# Altium integrated library Linear Technology Power Management Power-Over-Ethernet (PoE) Interface Controllers.IntLib: 174 symbols (part 4 of 16)
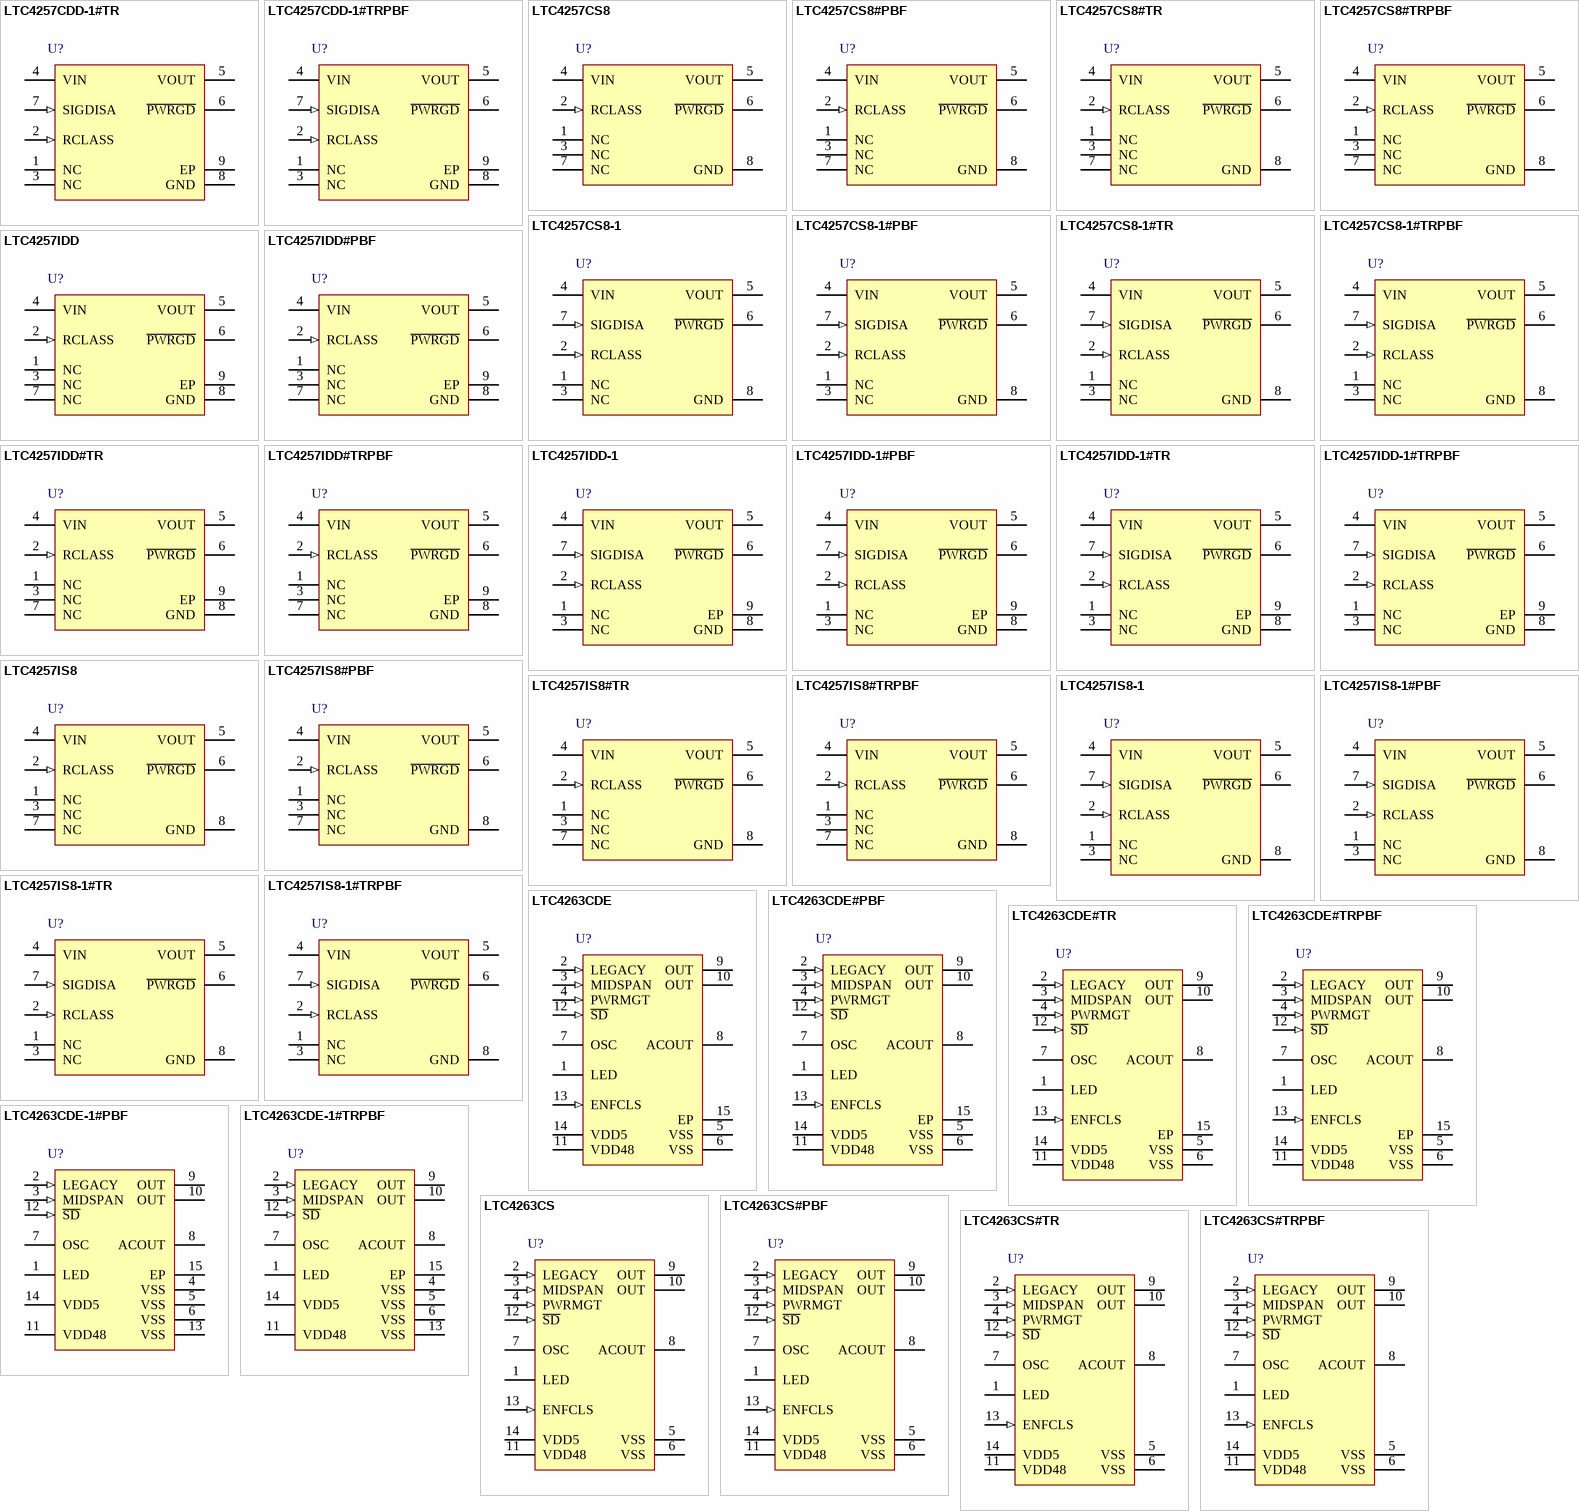
[diagram p11: symbols LTC4257CDD-1#TR to LTC4263CS#TRPBF]

## LTC4263CDE#TRPBF
designator U?
Single IEEE 802.3af Compliant PSE Controller with Internal Switch, 14-pin SON (DE-14), 0 to 70 degC, Pb-Free, Tape and Reel; Manufacturer: Linear Technology; PartNumber: LTC4263CDE#TRPBF; Channels(#): 1; Extended Temp: C, I; I2C Interface: no; Max Power(W): 12.95; DatasheetVersion: Rev. E; PackageVersion: Rev. B, 06/2010; PackageReference: DE-14; PackageDescription: 14-Pin Plastic DFN, Body 4 x 3 mm, Pitch 0.5 mm; Supplier 1: Digi-Key; Supplier Part Number 1: LTC4263CDE#TRPBF-ND; Supplier 2: Newark; Supplier Part Number 2: 56M9168; Packing: Tape and Reel; PoE Type: 1; PSE/PD: PSE; RoHS: TRUE; Mounting Technology: Surface Mount; Code_JEDEC: MO-229; ComponentLink1Description: Manufacturer URL; ComponentLink1URL: http://www.linear.com/; ComponentLink2Description: Datasheet; ComponentLink2URL: http://cds.linear.com/docs/en/datasheet/4263fe.pdf; ComponentLink3Description: Package Specification; ComponentLink3URL: http://www.linear.com/docs/en/packaging/DFN_14_05-08-1708.pdf
footprint LT-DE-14_V (SON, 14-Leads, Body 4x3mm, Pitch 0.5mm, Thermal Pad 3.3x1.7mm)
pins: 1 LED (oc) "Port State LED Drive. This pin is an open drain output that pulls down when the port is powered. Under port fault conditions, the LED will fl ash in patterns to indicate the nature of the port fault. See the Applications (See Datasheet)", 2 LEGACY (in) "Legacy Detect. This pin controls whether legacy detect is enabled. If held at VDD5, legacy detect is enabled and testing for a large capacitor is performed to detect the presence of a legacy PD on the port.", 3 MIDSPAN (in) "Midspan Enable. If this pin is connected to VDD5, Midspan backoff is enabled and a 3.2 second delay occurs after every failed detect cycle unless the result is open circuit. If held at VSS, no delay occurs after failed (See Datasheet)", 4 PWRMGT (in) "Power Management. The LTC4263 sources current at the PWRMGT pin proportional to the class of the PD that it is powering.", 5 VSS (power) "Negative 48V Supply. Pins 5 and 6 should be tied together on the PCB.", 6 VSS (power) "Negative 48V Supply. Pins 5 and 6 should be tied together on the PCB.", 7 OSC "Oscillator for AC Disconnect. If AC disconnect is used, connect a 0.1uF X7R capacitor from OSC to VSS. Tie OSC to VSS to disable AC disconnect and enable DC disconnect.", 8 ACOUT "AC Disconnect Sense. Senses the port to determine whether a PD is still connected when in AC disconnect mode.", 9 OUT "Port Output. If DC disconnect is used, these pins are connected to the port. If AC disconnect is used, these pins are connected to the port through a parallel combination of a 1A diode and a 500k resistor. Pins 9 and 10 (See Datasheet)", 10 OUT "Port Output. If DC disconnect is used, these pins are connected to the port. If AC disconnect is used, these pins are connected to the port through a parallel combination of a 1A diode and a 500k resistor. Pins 9 and 10 (See Datasheet)", 11 VDD48 (power) "48V Return. Must be bypassed with a 0.1uF capacitor to VSS.", 12 ~{SD} (in) "Shutdown. If held low, the LTC4263 is prevented from performing detection or powering the port. Pulling S\D\ low will turn off the port if it is powered. When released, a 4-second delay will occur before detection is (See Datasheet)", 13 ENFCLS (in) "Enforce Class Current Limits. If held at VDD5, the LTC4263 will reduce the ICUT threshold for class 1 or class 2 PDs. If ENFCLS is held at VSS, ICUT remains at 375mA (typ) for all classes.", 14 VDD5 (power) "Logic Power Supply.", 15 EP (power) "VSS. Must be connected to VSS on the PCB. The Exposed Pad acts as a heatsink for the internal MOSFET."

## LTC4263CDE-1#PBF
designator U?
High Power Single PSE Controller with Internal Switch, 14-pin SON (DE-14), 0 to 70 degC, Pb-Free; Manufacturer: Linear Technology; PartNumber: LTC4263CDE-1#PBF; Channels(#): 1; Extended Temp: C, I; I2C Interface: no; Max Power(W): 30; DatasheetVersion: Rev. A; PackageVersion: Rev. B, 06/2010; PackageReference: DE-14; PackageDescription: 14-Pin Plastic DFN, Body 4 x 3 mm, Pitch 0.5 mm; Supplier 1: Digi-Key; Supplier Part Number 1: LTC4263CDE-1#PBF-ND; Supplier 2: Farnell; Supplier Part Number 2: 2295351; Supplier 3: Newark; Supplier Part Number 3: 56M9164; PSE/PD: PSE; RoHS: TRUE; Mounting Technology: Surface Mount; Code_JEDEC: MO-229; ComponentLink1Description: Manufacturer URL; ComponentLink1URL: http://www.linear.com/; ComponentLink2Description: Datasheet; ComponentLink2URL: http://cds.linear.com/docs/en/datasheet/42631fa.pdf; ComponentLink3Description: Package Specification; ComponentLink3URL: http://www.linear.com/docs/en/packaging/DFN_14_05-08-1708.pdf
footprint LT-DE-14_V (SON, 14-Leads, Body 4x3mm, Pitch 0.5mm, Thermal Pad 3.3x1.7mm)
pins: 1 LED (oc) "Port State LED Drive. This pin is an opendrain output that pulls down when the port is powered. Under port fault conditions, the LED will fl ash in patterns to indicate the nature of the port fault. See the Applications (See Datasheet)", 2 LEGACY (in) "Legacy Detect. This pin controls whether legacy detect is enabled. If held at VDD5, legacy detect is enabled and testing for a large capacitor is performed to detect the presence of a legacy PD on the port.", 3 MIDSPAN (in) "Midspan Enable. If this pin is connected to VDD5, Midspan backoff is enabled and a 3.2 second delay occurs after every failed detect cycle unless the result is open circuit. If held at VSS, no delay occurs after failed (See Datasheet)", 4 VSS (power) "Negative Power Supply. Pins 4, 5, 6 and 13 should be tied together on the PCB. For optimum power delivery, supply voltage should be maximized. See Applications Information section for more information.", 5 VSS (power) "Negative Power Supply. Pins 4, 5, 6 and 13 should be tied together on the PCB. For optimum power delivery, supply voltage should be maximized. See Applications Information section for more information.", 6 VSS (power) "Negative Power Supply. Pins 4, 5, 6 and 13 should be tied together on the PCB. For optimum power delivery, supply voltage should be maximized. See Applications Information section for more information.", 7 OSC "Oscillator for AC Disconnect. If AC disconnect is used, connect a 0.1uF X7R capacitor from OSC to VSS. Tie OSC to VSS to disable AC disconnect and enable DC disconnect.", 8 ACOUT "AC Disconnect Sense. Senses the port to determine whether a PD is still connected when in AC disconnect mode. If port capacitance drops below about 0.15uF for longer than TMPDO the port is turned off. If AC disconnect is (See Datasheet)", 9 OUT "Port Output. If DC disconnect is used, these pins are connected to the port. If AC disconnect is used, these pins are connected to the port through a parallel combination of a 1A diode and a 500k resistor. Pins 9 and 10 (See Datasheet)", 10 OUT "Port Output. If DC disconnect is used, these pins are connected to the port. If AC disconnect is used, these pins are connected to the port through a parallel combination of a 1A diode and a 500k resistor. Pins 9 and 10 (See Datasheet)", 11 VDD48 (power) "Power Return for VSS.", 12 ~{SD} (in) "Shutdown. If held low, the LTC4263-1 is prevented from performing detection or powering the port. Pulling S\D\ low will turn off the port if it is powered. When released, a 4-second delay will occur before detection is (See Datasheet)", 13 VSS (power) "Negative Power Supply. Pins 4, 5, 6 and 13 should be tied together on the PCB. For optimum power delivery, supply voltage should be maximized. See Applications Information section for more information.", 14 VDD5 (power) "Logic Power Supply. Apply 5V referenced to VSS, if such a supply is available, or place a 0.1uF bypass capacitor to VSS to enable the internal regulator. When the internal regulator is used, this pin should only be connected (See Datasheet)", 15 EP (power) "VSS. Must be connected to VSS on the PCB. The Exposed Pad acts as a heat sink for the internal MOSFET."

## LTC4263CDE-1#TRPBF
designator U?
High Power Single PSE Controller with Internal Switch, 14-pin SON (DE-14), 0 to 70 degC, Pb-Free, Tape and Reel; Manufacturer: Linear Technology; PartNumber: LTC4263CDE-1#TRPBF; Channels(#): 1; Extended Temp: C, I; I2C Interface: no; Max Power(W): 30; DatasheetVersion: Rev. A; PackageVersion: Rev. B, 06/2010; PackageReference: DE-14; PackageDescription: 14-Pin Plastic DFN, Body 4 x 3 mm, Pitch 0.5 mm; Supplier 1: Digi-Key; Supplier Part Number 1: LTC4263CDE-1#TRPBF-ND; Packing: Tape and Reel; PSE/PD: PSE; RoHS: TRUE; Mounting Technology: Surface Mount; Code_JEDEC: MO-229; ComponentLink1Description: Manufacturer URL; ComponentLink1URL: http://www.linear.com/; ComponentLink2Description: Datasheet; ComponentLink2URL: http://cds.linear.com/docs/en/datasheet/42631fa.pdf; ComponentLink3Description: Package Specification; ComponentLink3URL: http://www.linear.com/docs/en/packaging/DFN_14_05-08-1708.pdf
footprint LT-DE-14_V (SON, 14-Leads, Body 4x3mm, Pitch 0.5mm, Thermal Pad 3.3x1.7mm)
pins: 1 LED (oc) "Port State LED Drive. This pin is an opendrain output that pulls down when the port is powered. Under port fault conditions, the LED will fl ash in patterns to indicate the nature of the port fault. See the Applications (See Datasheet)", 2 LEGACY (in) "Legacy Detect. This pin controls whether legacy detect is enabled. If held at VDD5, legacy detect is enabled and testing for a large capacitor is performed to detect the presence of a legacy PD on the port.", 3 MIDSPAN (in) "Midspan Enable. If this pin is connected to VDD5, Midspan backoff is enabled and a 3.2 second delay occurs after every failed detect cycle unless the result is open circuit. If held at VSS, no delay occurs after failed (See Datasheet)", 4 VSS (power) "Negative Power Supply. Pins 4, 5, 6 and 13 should be tied together on the PCB. For optimum power delivery, supply voltage should be maximized. See Applications Information section for more information.", 5 VSS (power) "Negative Power Supply. Pins 4, 5, 6 and 13 should be tied together on the PCB. For optimum power delivery, supply voltage should be maximized. See Applications Information section for more information.", 6 VSS (power) "Negative Power Supply. Pins 4, 5, 6 and 13 should be tied together on the PCB. For optimum power delivery, supply voltage should be maximized. See Applications Information section for more information.", 7 OSC "Oscillator for AC Disconnect. If AC disconnect is used, connect a 0.1uF X7R capacitor from OSC to VSS. Tie OSC to VSS to disable AC disconnect and enable DC disconnect.", 8 ACOUT "AC Disconnect Sense. Senses the port to determine whether a PD is still connected when in AC disconnect mode. If port capacitance drops below about 0.15uF for longer than TMPDO the port is turned off. If AC disconnect is (See Datasheet)", 9 OUT "Port Output. If DC disconnect is used, these pins are connected to the port. If AC disconnect is used, these pins are connected to the port through a parallel combination of a 1A diode and a 500k resistor. Pins 9 and 10 (See Datasheet)", 10 OUT "Port Output. If DC disconnect is used, these pins are connected to the port. If AC disconnect is used, these pins are connected to the port through a parallel combination of a 1A diode and a 500k resistor. Pins 9 and 10 (See Datasheet)", 11 VDD48 (power) "Power Return for VSS.", 12 ~{SD} (in) "Shutdown. If held low, the LTC4263-1 is prevented from performing detection or powering the port. Pulling S\D\ low will turn off the port if it is powered. When released, a 4-second delay will occur before detection is (See Datasheet)", 13 VSS (power) "Negative Power Supply. Pins 4, 5, 6 and 13 should be tied together on the PCB. For optimum power delivery, supply voltage should be maximized. See Applications Information section for more information.", 14 VDD5 (power) "Logic Power Supply. Apply 5V referenced to VSS, if such a supply is available, or place a 0.1uF bypass capacitor to VSS to enable the internal regulator. When the internal regulator is used, this pin should only be connected (See Datasheet)", 15 EP (power) "VSS. Must be connected to VSS on the PCB. The Exposed Pad acts as a heat sink for the internal MOSFET."

## LTC4263CS
designator U?
Single IEEE 802.3af Compliant PSE Controller with Internal Switch, 14-pin SOIC (S-14), 0 to 70 degC; Manufacturer: Linear Technology; PartNumber: LTC4263CS; Channels(#): 1; Extended Temp: C, I; I2C Interface: no; Max Power(W): 12.95; DatasheetVersion: Rev. E; PackageVersion: Rev. G, 03/2012; PackageReference: S-14; PackageDescription: 14-Pin Plastic Small Outline, Body 8.65 x 3.9 mm, Pitch 1.27 mm; PoE Type: 1; PSE/PD: PSE; RoHS: FALSE; Mounting Technology: Surface Mount; ComponentLink1Description: Manufacturer URL; ComponentLink1URL: http://www.linear.com/; ComponentLink2Description: Datasheet; ComponentLink2URL: http://cds.linear.com/docs/en/datasheet/4263fe.pdf; ComponentLink3Description: Package Specification; ComponentLink3URL: http://cds.linear.com/docs/en/packaging/05081610_G_S14.pdf
footprint LT-S-14_N (SOIC, 14-Leads, Body 8.7x4mm, Pitch 1.27mm, IPC Medium Density)
footprint LT-S-14_L (SOIC, 14-Leads, Body 8.7x4mm, Pitch 1.27mm, IPC High Density)
footprint LT-S-14_M (SOIC, 14-Leads, Body 8.7x4mm, Pitch 1.27mm, IPC Low Density)
pins: 1 LED (oc) "Port State LED Drive. This pin is an open drain output that pulls down when the port is powered. Under port fault conditions, the LED will fl ash in patterns to indicate the nature of the port fault. See the Applications (See Datasheet)", 2 LEGACY (in) "Legacy Detect. This pin controls whether legacy detect is enabled. If held at VDD5, legacy detect is enabled and testing for a large capacitor is performed to detect the presence of a legacy PD on the port.", 3 MIDSPAN (in) "Midspan Enable. If this pin is connected to VDD5, Midspan backoff is enabled and a 3.2 second delay occurs after every failed detect cycle unless the result is open circuit. If held at VSS, no delay occurs after failed (See Datasheet)", 4 PWRMGT (in) "Power Management. The LTC4263 sources current at the PWRMGT pin proportional to the class of the PD that it is powering.", 5 VSS (power) "Negative 48V Supply. Pins 5 and 6 should be tied together on the PCB.", 6 VSS (power) "Negative 48V Supply. Pins 5 and 6 should be tied together on the PCB.", 7 OSC "Oscillator for AC Disconnect. If AC disconnect is used, connect a 0.1uF X7R capacitor from OSC to VSS. Tie OSC to VSS to disable AC disconnect and enable DC disconnect.", 8 ACOUT "AC Disconnect Sense. Senses the port to determine whether a PD is still connected when in AC disconnect mode.", 9 OUT "Port Output. If DC disconnect is used, these pins are connected to the port. If AC disconnect is used, these pins are connected to the port through a parallel combination of a 1A diode and a 500k resistor. Pins 9 and 10 (See Datasheet)", 10 OUT "Port Output. If DC disconnect is used, these pins are connected to the port. If AC disconnect is used, these pins are connected to the port through a parallel combination of a 1A diode and a 500k resistor. Pins 9 and 10 (See Datasheet)", 11 VDD48 (power) "48V Return. Must be bypassed with a 0.1uF capacitor to VSS.", 12 ~{SD} (in) "Shutdown. If held low, the LTC4263 is prevented from performing detection or powering the port. Pulling S\D\ low will turn off the port if it is powered. When released, a 4-second delay will occur before detection is (See Datasheet)", 13 ENFCLS (in) "Enforce Class Current Limits. If held at VDD5, the LTC4263 will reduce the ICUT threshold for class 1 or class 2 PDs. If ENFCLS is held at VSS, ICUT remains at 375mA (typ) for all classes.", 14 VDD5 (power) "Logic Power Supply."

## LTC4263CS#PBF
designator U?
Single IEEE 802.3af Compliant PSE Controller with Internal Switch, 14-pin SOIC (S-14), 0 to 70 degC, Pb-Free; Manufacturer: Linear Technology; PartNumber: LTC4263CS#PBF; Channels(#): 1; Extended Temp: C, I; I2C Interface: no; Max Power(W): 12.95; DatasheetVersion: Rev. E; PackageVersion: Rev. G, 03/2012; PackageReference: S-14; PackageDescription: 14-Pin Plastic Small Outline, Body 8.65 x 3.9 mm, Pitch 1.27 mm; Supplier 1: Digi-Key; Supplier Part Number 1: LTC4263CS#PBF-ND; Supplier 2: Farnell; Supplier Part Number 2: 1663731; Supplier 3: Newark; Supplier Part Number 3: 56M9170; PoE Type: 1; PSE/PD: PSE; RoHS: TRUE; Mounting Technology: Surface Mount; ComponentLink1Description: Manufacturer URL; ComponentLink1URL: http://www.linear.com/; ComponentLink2Description: Datasheet; ComponentLink2URL: http://cds.linear.com/docs/en/datasheet/4263fe.pdf; ComponentLink3Description: Package Specification; ComponentLink3URL: http://cds.linear.com/docs/en/packaging/05081610_G_S14.pdf
footprint LT-S-14_N (SOIC, 14-Leads, Body 8.7x4mm, Pitch 1.27mm, IPC Medium Density)
footprint LT-S-14_L (SOIC, 14-Leads, Body 8.7x4mm, Pitch 1.27mm, IPC High Density)
footprint LT-S-14_M (SOIC, 14-Leads, Body 8.7x4mm, Pitch 1.27mm, IPC Low Density)
pins: 1 LED (oc) "Port State LED Drive. This pin is an open drain output that pulls down when the port is powered. Under port fault conditions, the LED will fl ash in patterns to indicate the nature of the port fault. See the Applications (See Datasheet)", 2 LEGACY (in) "Legacy Detect. This pin controls whether legacy detect is enabled. If held at VDD5, legacy detect is enabled and testing for a large capacitor is performed to detect the presence of a legacy PD on the port.", 3 MIDSPAN (in) "Midspan Enable. If this pin is connected to VDD5, Midspan backoff is enabled and a 3.2 second delay occurs after every failed detect cycle unless the result is open circuit. If held at VSS, no delay occurs after failed (See Datasheet)", 4 PWRMGT (in) "Power Management. The LTC4263 sources current at the PWRMGT pin proportional to the class of the PD that it is powering.", 5 VSS (power) "Negative 48V Supply. Pins 5 and 6 should be tied together on the PCB.", 6 VSS (power) "Negative 48V Supply. Pins 5 and 6 should be tied together on the PCB.", 7 OSC "Oscillator for AC Disconnect. If AC disconnect is used, connect a 0.1uF X7R capacitor from OSC to VSS. Tie OSC to VSS to disable AC disconnect and enable DC disconnect.", 8 ACOUT "AC Disconnect Sense. Senses the port to determine whether a PD is still connected when in AC disconnect mode.", 9 OUT "Port Output. If DC disconnect is used, these pins are connected to the port. If AC disconnect is used, these pins are connected to the port through a parallel combination of a 1A diode and a 500k resistor. Pins 9 and 10 (See Datasheet)", 10 OUT "Port Output. If DC disconnect is used, these pins are connected to the port. If AC disconnect is used, these pins are connected to the port through a parallel combination of a 1A diode and a 500k resistor. Pins 9 and 10 (See Datasheet)", 11 VDD48 (power) "48V Return. Must be bypassed with a 0.1uF capacitor to VSS.", 12 ~{SD} (in) "Shutdown. If held low, the LTC4263 is prevented from performing detection or powering the port. Pulling S\D\ low will turn off the port if it is powered. When released, a 4-second delay will occur before detection is (See Datasheet)", 13 ENFCLS (in) "Enforce Class Current Limits. If held at VDD5, the LTC4263 will reduce the ICUT threshold for class 1 or class 2 PDs. If ENFCLS is held at VSS, ICUT remains at 375mA (typ) for all classes.", 14 VDD5 (power) "Logic Power Supply."

## LTC4263CS#TR
designator U?
Single IEEE 802.3af Compliant PSE Controller with Internal Switch, 14-pin SOIC (S-14), 0 to 70 degC, Tape and Reel; Manufacturer: Linear Technology; PartNumber: LTC4263CS#TR; Channels(#): 1; Extended Temp: C, I; I2C Interface: no; Max Power(W): 12.95; DatasheetVersion: Rev. E; PackageVersion: Rev. G, 03/2012; PackageReference: S-14; PackageDescription: 14-Pin Plastic Small Outline, Body 8.65 x 3.9 mm, Pitch 1.27 mm; Packing: Tape and Reel; PoE Type: 1; PSE/PD: PSE; RoHS: FALSE; Mounting Technology: Surface Mount; ComponentLink1Description: Manufacturer URL; ComponentLink1URL: http://www.linear.com/; ComponentLink2Description: Datasheet; ComponentLink2URL: http://cds.linear.com/docs/en/datasheet/4263fe.pdf; ComponentLink3Description: Package Specification; ComponentLink3URL: http://cds.linear.com/docs/en/packaging/05081610_G_S14.pdf
footprint LT-S-14_N (SOIC, 14-Leads, Body 8.7x4mm, Pitch 1.27mm, IPC Medium Density)
footprint LT-S-14_L (SOIC, 14-Leads, Body 8.7x4mm, Pitch 1.27mm, IPC High Density)
footprint LT-S-14_M (SOIC, 14-Leads, Body 8.7x4mm, Pitch 1.27mm, IPC Low Density)
pins: 1 LED (oc) "Port State LED Drive. This pin is an open drain output that pulls down when the port is powered. Under port fault conditions, the LED will fl ash in patterns to indicate the nature of the port fault. See the Applications (See Datasheet)", 2 LEGACY (in) "Legacy Detect. This pin controls whether legacy detect is enabled. If held at VDD5, legacy detect is enabled and testing for a large capacitor is performed to detect the presence of a legacy PD on the port.", 3 MIDSPAN (in) "Midspan Enable. If this pin is connected to VDD5, Midspan backoff is enabled and a 3.2 second delay occurs after every failed detect cycle unless the result is open circuit. If held at VSS, no delay occurs after failed (See Datasheet)", 4 PWRMGT (in) "Power Management. The LTC4263 sources current at the PWRMGT pin proportional to the class of the PD that it is powering.", 5 VSS (power) "Negative 48V Supply. Pins 5 and 6 should be tied together on the PCB.", 6 VSS (power) "Negative 48V Supply. Pins 5 and 6 should be tied together on the PCB.", 7 OSC "Oscillator for AC Disconnect. If AC disconnect is used, connect a 0.1uF X7R capacitor from OSC to VSS. Tie OSC to VSS to disable AC disconnect and enable DC disconnect.", 8 ACOUT "AC Disconnect Sense. Senses the port to determine whether a PD is still connected when in AC disconnect mode.", 9 OUT "Port Output. If DC disconnect is used, these pins are connected to the port. If AC disconnect is used, these pins are connected to the port through a parallel combination of a 1A diode and a 500k resistor. Pins 9 and 10 (See Datasheet)", 10 OUT "Port Output. If DC disconnect is used, these pins are connected to the port. If AC disconnect is used, these pins are connected to the port through a parallel combination of a 1A diode and a 500k resistor. Pins 9 and 10 (See Datasheet)", 11 VDD48 (power) "48V Return. Must be bypassed with a 0.1uF capacitor to VSS.", 12 ~{SD} (in) "Shutdown. If held low, the LTC4263 is prevented from performing detection or powering the port. Pulling S\D\ low will turn off the port if it is powered. When released, a 4-second delay will occur before detection is (See Datasheet)", 13 ENFCLS (in) "Enforce Class Current Limits. If held at VDD5, the LTC4263 will reduce the ICUT threshold for class 1 or class 2 PDs. If ENFCLS is held at VSS, ICUT remains at 375mA (typ) for all classes.", 14 VDD5 (power) "Logic Power Supply."

## LTC4263CS#TRPBF
designator U?
Single IEEE 802.3af Compliant PSE Controller with Internal Switch, 14-pin SOIC (S-14), 0 to 70 degC, Pb-Free, Tape and Reel; Manufacturer: Linear Technology; PartNumber: LTC4263CS#TRPBF; Channels(#): 1; Extended Temp: C, I; I2C Interface: no; Max Power(W): 12.95; DatasheetVersion: Rev. E; PackageVersion: Rev. G, 03/2012; PackageReference: S-14; PackageDescription: 14-Pin Plastic Small Outline, Body 8.65 x 3.9 mm, Pitch 1.27 mm; Supplier 1: Digi-Key; Supplier Part Number 1: LTC4263CS#TRPBF-ND; Packing: Tape and Reel; PoE Type: 1; PSE/PD: PSE; RoHS: TRUE; Mounting Technology: Surface Mount; ComponentLink1Description: Manufacturer URL; ComponentLink1URL: http://www.linear.com/; ComponentLink2Description: Datasheet; ComponentLink2URL: http://cds.linear.com/docs/en/datasheet/4263fe.pdf; ComponentLink3Description: Package Specification; ComponentLink3URL: http://cds.linear.com/docs/en/packaging/05081610_G_S14.pdf
footprint LT-S-14_N (SOIC, 14-Leads, Body 8.7x4mm, Pitch 1.27mm, IPC Medium Density)
footprint LT-S-14_L (SOIC, 14-Leads, Body 8.7x4mm, Pitch 1.27mm, IPC High Density)
footprint LT-S-14_M (SOIC, 14-Leads, Body 8.7x4mm, Pitch 1.27mm, IPC Low Density)
pins: 1 LED (oc) "Port State LED Drive. This pin is an open drain output that pulls down when the port is powered. Under port fault conditions, the LED will fl ash in patterns to indicate the nature of the port fault. See the Applications (See Datasheet)", 2 LEGACY (in) "Legacy Detect. This pin controls whether legacy detect is enabled. If held at VDD5, legacy detect is enabled and testing for a large capacitor is performed to detect the presence of a legacy PD on the port.", 3 MIDSPAN (in) "Midspan Enable. If this pin is connected to VDD5, Midspan backoff is enabled and a 3.2 second delay occurs after every failed detect cycle unless the result is open circuit. If held at VSS, no delay occurs after failed (See Datasheet)", 4 PWRMGT (in) "Power Management. The LTC4263 sources current at the PWRMGT pin proportional to the class of the PD that it is powering.", 5 VSS (power) "Negative 48V Supply. Pins 5 and 6 should be tied together on the PCB.", 6 VSS (power) "Negative 48V Supply. Pins 5 and 6 should be tied together on the PCB.", 7 OSC "Oscillator for AC Disconnect. If AC disconnect is used, connect a 0.1uF X7R capacitor from OSC to VSS. Tie OSC to VSS to disable AC disconnect and enable DC disconnect.", 8 ACOUT "AC Disconnect Sense. Senses the port to determine whether a PD is still connected when in AC disconnect mode.", 9 OUT "Port Output. If DC disconnect is used, these pins are connected to the port. If AC disconnect is used, these pins are connected to the port through a parallel combination of a 1A diode and a 500k resistor. Pins 9 and 10 (See Datasheet)", 10 OUT "Port Output. If DC disconnect is used, these pins are connected to the port. If AC disconnect is used, these pins are connected to the port through a parallel combination of a 1A diode and a 500k resistor. Pins 9 and 10 (See Datasheet)", 11 VDD48 (power) "48V Return. Must be bypassed with a 0.1uF capacitor to VSS.", 12 ~{SD} (in) "Shutdown. If held low, the LTC4263 is prevented from performing detection or powering the port. Pulling S\D\ low will turn off the port if it is powered. When released, a 4-second delay will occur before detection is (See Datasheet)", 13 ENFCLS (in) "Enforce Class Current Limits. If held at VDD5, the LTC4263 will reduce the ICUT threshold for class 1 or class 2 PDs. If ENFCLS is held at VSS, ICUT remains at 375mA (typ) for all classes.", 14 VDD5 (power) "Logic Power Supply."

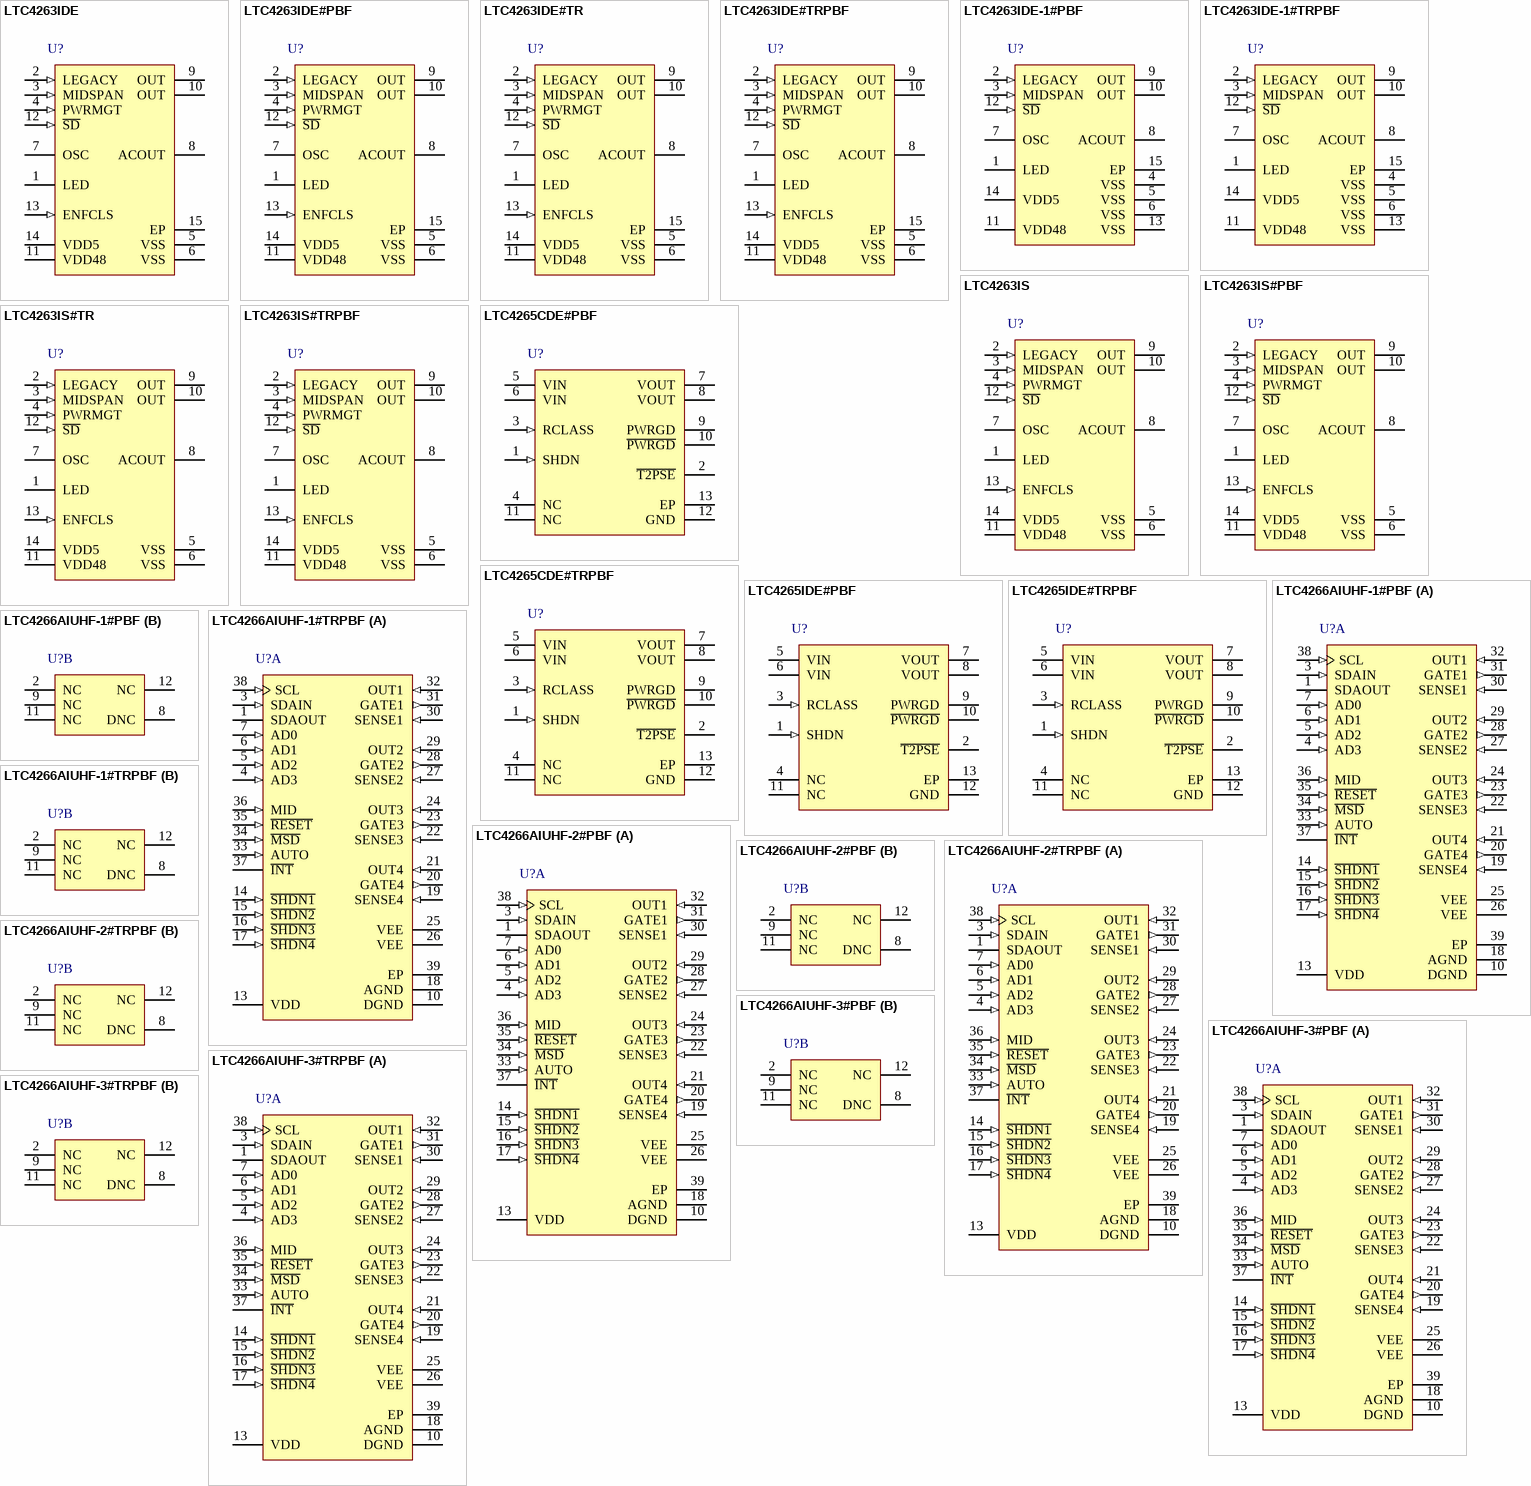
[diagram p2: symbols LTC4263IDE to LTC4266AIUHF-3#TRPBF]

## LTC4263IDE
designator U?
Single IEEE 802.3af Compliant PSE Controller with Internal Switch, 14-pin SON (DE-14), -40 to 85 degC; Manufacturer: Linear Technology; PartNumber: LTC4263IDE; Channels(#): 1; Extended Temp: C, I; I2C Interface: no; Max Power(W): 12.95; DatasheetVersion: Rev. E; PackageVersion: Rev. B, 06/2010; PackageReference: DE-14; PackageDescription: 14-Pin Plastic DFN, Body 4 x 3 mm, Pitch 0.5 mm; PoE Type: 1; PSE/PD: PSE; RoHS: FALSE; Mounting Technology: Surface Mount; Code_JEDEC: MO-229; ComponentLink1Description: Manufacturer URL; ComponentLink1URL: http://www.linear.com/; ComponentLink2Description: Datasheet; ComponentLink2URL: http://cds.linear.com/docs/en/datasheet/4263fe.pdf; ComponentLink3Description: Package Specification; ComponentLink3URL: http://www.linear.com/docs/en/packaging/DFN_14_05-08-1708.pdf
footprint LT-DE-14_V (SON, 14-Leads, Body 4x3mm, Pitch 0.5mm, Thermal Pad 3.3x1.7mm)
pins: 1 LED (oc) "Port State LED Drive. This pin is an open drain output that pulls down when the port is powered. Under port fault conditions, the LED will fl ash in patterns to indicate the nature of the port fault. See the Applications (See Datasheet)", 2 LEGACY (in) "Legacy Detect. This pin controls whether legacy detect is enabled. If held at VDD5, legacy detect is enabled and testing for a large capacitor is performed to detect the presence of a legacy PD on the port.", 3 MIDSPAN (in) "Midspan Enable. If this pin is connected to VDD5, Midspan backoff is enabled and a 3.2 second delay occurs after every failed detect cycle unless the result is open circuit. If held at VSS, no delay occurs after failed (See Datasheet)", 4 PWRMGT (in) "Power Management. The LTC4263 sources current at the PWRMGT pin proportional to the class of the PD that it is powering.", 5 VSS (power) "Negative 48V Supply. Pins 5 and 6 should be tied together on the PCB.", 6 VSS (power) "Negative 48V Supply. Pins 5 and 6 should be tied together on the PCB.", 7 OSC "Oscillator for AC Disconnect. If AC disconnect is used, connect a 0.1uF X7R capacitor from OSC to VSS. Tie OSC to VSS to disable AC disconnect and enable DC disconnect.", 8 ACOUT "AC Disconnect Sense. Senses the port to determine whether a PD is still connected when in AC disconnect mode.", 9 OUT "Port Output. If DC disconnect is used, these pins are connected to the port. If AC disconnect is used, these pins are connected to the port through a parallel combination of a 1A diode and a 500k resistor. Pins 9 and 10 (See Datasheet)", 10 OUT "Port Output. If DC disconnect is used, these pins are connected to the port. If AC disconnect is used, these pins are connected to the port through a parallel combination of a 1A diode and a 500k resistor. Pins 9 and 10 (See Datasheet)", 11 VDD48 (power) "48V Return. Must be bypassed with a 0.1uF capacitor to VSS.", 12 ~{SD} (in) "Shutdown. If held low, the LTC4263 is prevented from performing detection or powering the port. Pulling S\D\ low will turn off the port if it is powered. When released, a 4-second delay will occur before detection is (See Datasheet)", 13 ENFCLS (in) "Enforce Class Current Limits. If held at VDD5, the LTC4263 will reduce the ICUT threshold for class 1 or class 2 PDs. If ENFCLS is held at VSS, ICUT remains at 375mA (typ) for all classes.", 14 VDD5 (power) "Logic Power Supply.", 15 EP (power) "VSS. Must be connected to VSS on the PCB. The Exposed Pad acts as a heatsink for the internal MOSFET."

## LTC4263IDE#PBF
designator U?
Single IEEE 802.3af Compliant PSE Controller with Internal Switch, 14-pin SON (DE-14), -40 to 85 degC, Pb-Free; Manufacturer: Linear Technology; PartNumber: LTC4263IDE#PBF; Channels(#): 1; Extended Temp: C, I; I2C Interface: no; Max Power(W): 12.95; DatasheetVersion: Rev. E; PackageVersion: Rev. B, 06/2010; PackageReference: DE-14; PackageDescription: 14-Pin Plastic DFN, Body 4 x 3 mm, Pitch 0.5 mm; Supplier 1: Digi-Key; Supplier Part Number 1: LTC4263IDE#PBF-ND; Supplier 2: Farnell; Supplier Part Number 2: 2295352; Supplier 3: Newark; Supplier Part Number 3: 56M9176; PoE Type: 1; PSE/PD: PSE; RoHS: TRUE; Mounting Technology: Surface Mount; Code_JEDEC: MO-229; ComponentLink1Description: Manufacturer URL; ComponentLink1URL: http://www.linear.com/; ComponentLink2Description: Datasheet; ComponentLink2URL: http://cds.linear.com/docs/en/datasheet/4263fe.pdf; ComponentLink3Description: Package Specification; ComponentLink3URL: http://www.linear.com/docs/en/packaging/DFN_14_05-08-1708.pdf
footprint LT-DE-14_V (SON, 14-Leads, Body 4x3mm, Pitch 0.5mm, Thermal Pad 3.3x1.7mm)
pins: 1 LED (oc) "Port State LED Drive. This pin is an open drain output that pulls down when the port is powered. Under port fault conditions, the LED will fl ash in patterns to indicate the nature of the port fault. See the Applications (See Datasheet)", 2 LEGACY (in) "Legacy Detect. This pin controls whether legacy detect is enabled. If held at VDD5, legacy detect is enabled and testing for a large capacitor is performed to detect the presence of a legacy PD on the port.", 3 MIDSPAN (in) "Midspan Enable. If this pin is connected to VDD5, Midspan backoff is enabled and a 3.2 second delay occurs after every failed detect cycle unless the result is open circuit. If held at VSS, no delay occurs after failed (See Datasheet)", 4 PWRMGT (in) "Power Management. The LTC4263 sources current at the PWRMGT pin proportional to the class of the PD that it is powering.", 5 VSS (power) "Negative 48V Supply. Pins 5 and 6 should be tied together on the PCB.", 6 VSS (power) "Negative 48V Supply. Pins 5 and 6 should be tied together on the PCB.", 7 OSC "Oscillator for AC Disconnect. If AC disconnect is used, connect a 0.1uF X7R capacitor from OSC to VSS. Tie OSC to VSS to disable AC disconnect and enable DC disconnect.", 8 ACOUT "AC Disconnect Sense. Senses the port to determine whether a PD is still connected when in AC disconnect mode.", 9 OUT "Port Output. If DC disconnect is used, these pins are connected to the port. If AC disconnect is used, these pins are connected to the port through a parallel combination of a 1A diode and a 500k resistor. Pins 9 and 10 (See Datasheet)", 10 OUT "Port Output. If DC disconnect is used, these pins are connected to the port. If AC disconnect is used, these pins are connected to the port through a parallel combination of a 1A diode and a 500k resistor. Pins 9 and 10 (See Datasheet)", 11 VDD48 (power) "48V Return. Must be bypassed with a 0.1uF capacitor to VSS.", 12 ~{SD} (in) "Shutdown. If held low, the LTC4263 is prevented from performing detection or powering the port. Pulling S\D\ low will turn off the port if it is powered. When released, a 4-second delay will occur before detection is (See Datasheet)", 13 ENFCLS (in) "Enforce Class Current Limits. If held at VDD5, the LTC4263 will reduce the ICUT threshold for class 1 or class 2 PDs. If ENFCLS is held at VSS, ICUT remains at 375mA (typ) for all classes.", 14 VDD5 (power) "Logic Power Supply.", 15 EP (power) "VSS. Must be connected to VSS on the PCB. The Exposed Pad acts as a heatsink for the internal MOSFET."

## LTC4263IDE#TR
designator U?
Single IEEE 802.3af Compliant PSE Controller with Internal Switch, 14-pin SON (DE-14), -40 to 85 degC, Tape and Reel; Manufacturer: Linear Technology; PartNumber: LTC4263IDE#TR; Channels(#): 1; Extended Temp: C, I; I2C Interface: no; Max Power(W): 12.95; DatasheetVersion: Rev. E; PackageVersion: Rev. B, 06/2010; PackageReference: DE-14; PackageDescription: 14-Pin Plastic DFN, Body 4 x 3 mm, Pitch 0.5 mm; Packing: Tape and Reel; PoE Type: 1; PSE/PD: PSE; RoHS: FALSE; Mounting Technology: Surface Mount; Code_JEDEC: MO-229; ComponentLink1Description: Manufacturer URL; ComponentLink1URL: http://www.linear.com/; ComponentLink2Description: Datasheet; ComponentLink2URL: http://cds.linear.com/docs/en/datasheet/4263fe.pdf; ComponentLink3Description: Package Specification; ComponentLink3URL: http://www.linear.com/docs/en/packaging/DFN_14_05-08-1708.pdf
footprint LT-DE-14_V (SON, 14-Leads, Body 4x3mm, Pitch 0.5mm, Thermal Pad 3.3x1.7mm)
pins: 1 LED (oc) "Port State LED Drive. This pin is an open drain output that pulls down when the port is powered. Under port fault conditions, the LED will fl ash in patterns to indicate the nature of the port fault. See the Applications (See Datasheet)", 2 LEGACY (in) "Legacy Detect. This pin controls whether legacy detect is enabled. If held at VDD5, legacy detect is enabled and testing for a large capacitor is performed to detect the presence of a legacy PD on the port.", 3 MIDSPAN (in) "Midspan Enable. If this pin is connected to VDD5, Midspan backoff is enabled and a 3.2 second delay occurs after every failed detect cycle unless the result is open circuit. If held at VSS, no delay occurs after failed (See Datasheet)", 4 PWRMGT (in) "Power Management. The LTC4263 sources current at the PWRMGT pin proportional to the class of the PD that it is powering.", 5 VSS (power) "Negative 48V Supply. Pins 5 and 6 should be tied together on the PCB.", 6 VSS (power) "Negative 48V Supply. Pins 5 and 6 should be tied together on the PCB.", 7 OSC "Oscillator for AC Disconnect. If AC disconnect is used, connect a 0.1uF X7R capacitor from OSC to VSS. Tie OSC to VSS to disable AC disconnect and enable DC disconnect.", 8 ACOUT "AC Disconnect Sense. Senses the port to determine whether a PD is still connected when in AC disconnect mode.", 9 OUT "Port Output. If DC disconnect is used, these pins are connected to the port. If AC disconnect is used, these pins are connected to the port through a parallel combination of a 1A diode and a 500k resistor. Pins 9 and 10 (See Datasheet)", 10 OUT "Port Output. If DC disconnect is used, these pins are connected to the port. If AC disconnect is used, these pins are connected to the port through a parallel combination of a 1A diode and a 500k resistor. Pins 9 and 10 (See Datasheet)", 11 VDD48 (power) "48V Return. Must be bypassed with a 0.1uF capacitor to VSS.", 12 ~{SD} (in) "Shutdown. If held low, the LTC4263 is prevented from performing detection or powering the port. Pulling S\D\ low will turn off the port if it is powered. When released, a 4-second delay will occur before detection is (See Datasheet)", 13 ENFCLS (in) "Enforce Class Current Limits. If held at VDD5, the LTC4263 will reduce the ICUT threshold for class 1 or class 2 PDs. If ENFCLS is held at VSS, ICUT remains at 375mA (typ) for all classes.", 14 VDD5 (power) "Logic Power Supply.", 15 EP (power) "VSS. Must be connected to VSS on the PCB. The Exposed Pad acts as a heatsink for the internal MOSFET."

## LTC4263IDE#TRPBF
designator U?
Single IEEE 802.3af Compliant PSE Controller with Internal Switch, 14-pin SON (DE-14), -40 to 85 degC, Pb-Free, Tape and Reel; Manufacturer: Linear Technology; PartNumber: LTC4263IDE#TRPBF; Channels(#): 1; Extended Temp: C, I; I2C Interface: no; Max Power(W): 12.95; DatasheetVersion: Rev. E; PackageVersion: Rev. B, 06/2010; PackageReference: DE-14; PackageDescription: 14-Pin Plastic DFN, Body 4 x 3 mm, Pitch 0.5 mm; Supplier 1: Digi-Key; Supplier Part Number 1: LTC4263IDE#TRPBF-ND; Supplier 2: Newark; Supplier Part Number 2: 56M9178; Packing: Tape and Reel; PoE Type: 1; PSE/PD: PSE; RoHS: TRUE; Mounting Technology: Surface Mount; Code_JEDEC: MO-229; ComponentLink1Description: Manufacturer URL; ComponentLink1URL: http://www.linear.com/; ComponentLink2Description: Datasheet; ComponentLink2URL: http://cds.linear.com/docs/en/datasheet/4263fe.pdf; ComponentLink3Description: Package Specification; ComponentLink3URL: http://www.linear.com/docs/en/packaging/DFN_14_05-08-1708.pdf
footprint LT-DE-14_V (SON, 14-Leads, Body 4x3mm, Pitch 0.5mm, Thermal Pad 3.3x1.7mm)
pins: 1 LED (oc) "Port State LED Drive. This pin is an open drain output that pulls down when the port is powered. Under port fault conditions, the LED will fl ash in patterns to indicate the nature of the port fault. See the Applications (See Datasheet)", 2 LEGACY (in) "Legacy Detect. This pin controls whether legacy detect is enabled. If held at VDD5, legacy detect is enabled and testing for a large capacitor is performed to detect the presence of a legacy PD on the port.", 3 MIDSPAN (in) "Midspan Enable. If this pin is connected to VDD5, Midspan backoff is enabled and a 3.2 second delay occurs after every failed detect cycle unless the result is open circuit. If held at VSS, no delay occurs after failed (See Datasheet)", 4 PWRMGT (in) "Power Management. The LTC4263 sources current at the PWRMGT pin proportional to the class of the PD that it is powering.", 5 VSS (power) "Negative 48V Supply. Pins 5 and 6 should be tied together on the PCB.", 6 VSS (power) "Negative 48V Supply. Pins 5 and 6 should be tied together on the PCB.", 7 OSC "Oscillator for AC Disconnect. If AC disconnect is used, connect a 0.1uF X7R capacitor from OSC to VSS. Tie OSC to VSS to disable AC disconnect and enable DC disconnect.", 8 ACOUT "AC Disconnect Sense. Senses the port to determine whether a PD is still connected when in AC disconnect mode.", 9 OUT "Port Output. If DC disconnect is used, these pins are connected to the port. If AC disconnect is used, these pins are connected to the port through a parallel combination of a 1A diode and a 500k resistor. Pins 9 and 10 (See Datasheet)", 10 OUT "Port Output. If DC disconnect is used, these pins are connected to the port. If AC disconnect is used, these pins are connected to the port through a parallel combination of a 1A diode and a 500k resistor. Pins 9 and 10 (See Datasheet)", 11 VDD48 (power) "48V Return. Must be bypassed with a 0.1uF capacitor to VSS.", 12 ~{SD} (in) "Shutdown. If held low, the LTC4263 is prevented from performing detection or powering the port. Pulling S\D\ low will turn off the port if it is powered. When released, a 4-second delay will occur before detection is (See Datasheet)", 13 ENFCLS (in) "Enforce Class Current Limits. If held at VDD5, the LTC4263 will reduce the ICUT threshold for class 1 or class 2 PDs. If ENFCLS is held at VSS, ICUT remains at 375mA (typ) for all classes.", 14 VDD5 (power) "Logic Power Supply.", 15 EP (power) "VSS. Must be connected to VSS on the PCB. The Exposed Pad acts as a heatsink for the internal MOSFET."

## LTC4263IDE-1#PBF
designator U?
High Power Single PSE Controller with Internal Switch, 14-pin SON (DE-14), -40 to 85 degC, Pb-Free; Manufacturer: Linear Technology; PartNumber: LTC4263IDE-1#PBF; Channels(#): 1; Extended Temp: C, I; I2C Interface: no; Max Power(W): 30; DatasheetVersion: Rev. A; PackageVersion: Rev. B, 06/2010; PackageReference: DE-14; PackageDescription: 14-Pin Plastic DFN, Body 4 x 3 mm, Pitch 0.5 mm; Supplier 1: Digi-Key; Supplier Part Number 1: LTC4263IDE-1#PBF-ND; Supplier 2: Farnell; Supplier Part Number 2: 2295353; Supplier 3: Newark; Supplier Part Number 3: 56M9174; PSE/PD: PSE; RoHS: TRUE; Mounting Technology: Surface Mount; Code_JEDEC: MO-229; ComponentLink1Description: Manufacturer URL; ComponentLink1URL: http://www.linear.com/; ComponentLink2Description: Datasheet; ComponentLink2URL: http://cds.linear.com/docs/en/datasheet/42631fa.pdf; ComponentLink3Description: Package Specification; ComponentLink3URL: http://www.linear.com/docs/en/packaging/DFN_14_05-08-1708.pdf
footprint LT-DE-14_V (SON, 14-Leads, Body 4x3mm, Pitch 0.5mm, Thermal Pad 3.3x1.7mm)
pins: 1 LED (oc) "Port State LED Drive. This pin is an opendrain output that pulls down when the port is powered. Under port fault conditions, the LED will fl ash in patterns to indicate the nature of the port fault. See the Applications (See Datasheet)", 2 LEGACY (in) "Legacy Detect. This pin controls whether legacy detect is enabled. If held at VDD5, legacy detect is enabled and testing for a large capacitor is performed to detect the presence of a legacy PD on the port.", 3 MIDSPAN (in) "Midspan Enable. If this pin is connected to VDD5, Midspan backoff is enabled and a 3.2 second delay occurs after every failed detect cycle unless the result is open circuit. If held at VSS, no delay occurs after failed (See Datasheet)", 4 VSS (power) "Negative Power Supply. Pins 4, 5, 6 and 13 should be tied together on the PCB. For optimum power delivery, supply voltage should be maximized. See Applications Information section for more information.", 5 VSS (power) "Negative Power Supply. Pins 4, 5, 6 and 13 should be tied together on the PCB. For optimum power delivery, supply voltage should be maximized. See Applications Information section for more information.", 6 VSS (power) "Negative Power Supply. Pins 4, 5, 6 and 13 should be tied together on the PCB. For optimum power delivery, supply voltage should be maximized. See Applications Information section for more information.", 7 OSC "Oscillator for AC Disconnect. If AC disconnect is used, connect a 0.1uF X7R capacitor from OSC to VSS. Tie OSC to VSS to disable AC disconnect and enable DC disconnect.", 8 ACOUT "AC Disconnect Sense. Senses the port to determine whether a PD is still connected when in AC disconnect mode. If port capacitance drops below about 0.15uF for longer than TMPDO the port is turned off. If AC disconnect is (See Datasheet)", 9 OUT "Port Output. If DC disconnect is used, these pins are connected to the port. If AC disconnect is used, these pins are connected to the port through a parallel combination of a 1A diode and a 500k resistor. Pins 9 and 10 (See Datasheet)", 10 OUT "Port Output. If DC disconnect is used, these pins are connected to the port. If AC disconnect is used, these pins are connected to the port through a parallel combination of a 1A diode and a 500k resistor. Pins 9 and 10 (See Datasheet)", 11 VDD48 (power) "Power Return for VSS.", 12 ~{SD} (in) "Shutdown. If held low, the LTC4263-1 is prevented from performing detection or powering the port. Pulling S\D\ low will turn off the port if it is powered. When released, a 4-second delay will occur before detection is (See Datasheet)", 13 VSS (power) "Negative Power Supply. Pins 4, 5, 6 and 13 should be tied together on the PCB. For optimum power delivery, supply voltage should be maximized. See Applications Information section for more information.", 14 VDD5 (power) "Logic Power Supply. Apply 5V referenced to VSS, if such a supply is available, or place a 0.1uF bypass capacitor to VSS to enable the internal regulator. When the internal regulator is used, this pin should only be connected (See Datasheet)", 15 EP (power) "VSS. Must be connected to VSS on the PCB. The Exposed Pad acts as a heat sink for the internal MOSFET."

## LTC4263IDE-1#TRPBF
designator U?
High Power Single PSE Controller with Internal Switch, 14-pin SON (DE-14), -40 to 85 degC, Pb-Free, Tape and Reel; Manufacturer: Linear Technology; PartNumber: LTC4263IDE-1#TRPBF; Channels(#): 1; Extended Temp: C, I; I2C Interface: no; Max Power(W): 30; DatasheetVersion: Rev. A; PackageVersion: Rev. B, 06/2010; PackageReference: DE-14; PackageDescription: 14-Pin Plastic DFN, Body 4 x 3 mm, Pitch 0.5 mm; Supplier 1: Digi-Key; Supplier Part Number 1: LTC4263IDE-1#TRPBF-ND; Supplier 2: Newark; Supplier Part Number 2: 56M9175; Packing: Tape and Reel; PSE/PD: PSE; RoHS: TRUE; Mounting Technology: Surface Mount; Code_JEDEC: MO-229; ComponentLink1Description: Manufacturer URL; ComponentLink1URL: http://www.linear.com/; ComponentLink2Description: Datasheet; ComponentLink2URL: http://cds.linear.com/docs/en/datasheet/42631fa.pdf; ComponentLink3Description: Package Specification; ComponentLink3URL: http://www.linear.com/docs/en/packaging/DFN_14_05-08-1708.pdf
footprint LT-DE-14_V (SON, 14-Leads, Body 4x3mm, Pitch 0.5mm, Thermal Pad 3.3x1.7mm)
pins: 1 LED (oc) "Port State LED Drive. This pin is an opendrain output that pulls down when the port is powered. Under port fault conditions, the LED will fl ash in patterns to indicate the nature of the port fault. See the Applications (See Datasheet)", 2 LEGACY (in) "Legacy Detect. This pin controls whether legacy detect is enabled. If held at VDD5, legacy detect is enabled and testing for a large capacitor is performed to detect the presence of a legacy PD on the port.", 3 MIDSPAN (in) "Midspan Enable. If this pin is connected to VDD5, Midspan backoff is enabled and a 3.2 second delay occurs after every failed detect cycle unless the result is open circuit. If held at VSS, no delay occurs after failed (See Datasheet)", 4 VSS (power) "Negative Power Supply. Pins 4, 5, 6 and 13 should be tied together on the PCB. For optimum power delivery, supply voltage should be maximized. See Applications Information section for more information.", 5 VSS (power) "Negative Power Supply. Pins 4, 5, 6 and 13 should be tied together on the PCB. For optimum power delivery, supply voltage should be maximized. See Applications Information section for more information.", 6 VSS (power) "Negative Power Supply. Pins 4, 5, 6 and 13 should be tied together on the PCB. For optimum power delivery, supply voltage should be maximized. See Applications Information section for more information.", 7 OSC "Oscillator for AC Disconnect. If AC disconnect is used, connect a 0.1uF X7R capacitor from OSC to VSS. Tie OSC to VSS to disable AC disconnect and enable DC disconnect.", 8 ACOUT "AC Disconnect Sense. Senses the port to determine whether a PD is still connected when in AC disconnect mode. If port capacitance drops below about 0.15uF for longer than TMPDO the port is turned off. If AC disconnect is (See Datasheet)", 9 OUT "Port Output. If DC disconnect is used, these pins are connected to the port. If AC disconnect is used, these pins are connected to the port through a parallel combination of a 1A diode and a 500k resistor. Pins 9 and 10 (See Datasheet)", 10 OUT "Port Output. If DC disconnect is used, these pins are connected to the port. If AC disconnect is used, these pins are connected to the port through a parallel combination of a 1A diode and a 500k resistor. Pins 9 and 10 (See Datasheet)", 11 VDD48 (power) "Power Return for VSS.", 12 ~{SD} (in) "Shutdown. If held low, the LTC4263-1 is prevented from performing detection or powering the port. Pulling S\D\ low will turn off the port if it is powered. When released, a 4-second delay will occur before detection is (See Datasheet)", 13 VSS (power) "Negative Power Supply. Pins 4, 5, 6 and 13 should be tied together on the PCB. For optimum power delivery, supply voltage should be maximized. See Applications Information section for more information.", 14 VDD5 (power) "Logic Power Supply. Apply 5V referenced to VSS, if such a supply is available, or place a 0.1uF bypass capacitor to VSS to enable the internal regulator. When the internal regulator is used, this pin should only be connected (See Datasheet)", 15 EP (power) "VSS. Must be connected to VSS on the PCB. The Exposed Pad acts as a heat sink for the internal MOSFET."